# Altium footprint library STM32F031K6T7.PcbLib: 1 footprints
Each footprint in its own frame and in the unit in brackets; x right, y up, seen from the top. Pads: shape width x height; smd on the part's side, far side on the other; paste and mask are expansions set on the pad; w line width, h text height; cw(c..) or ccw(c..) is an arc to the next point about the centre after c.
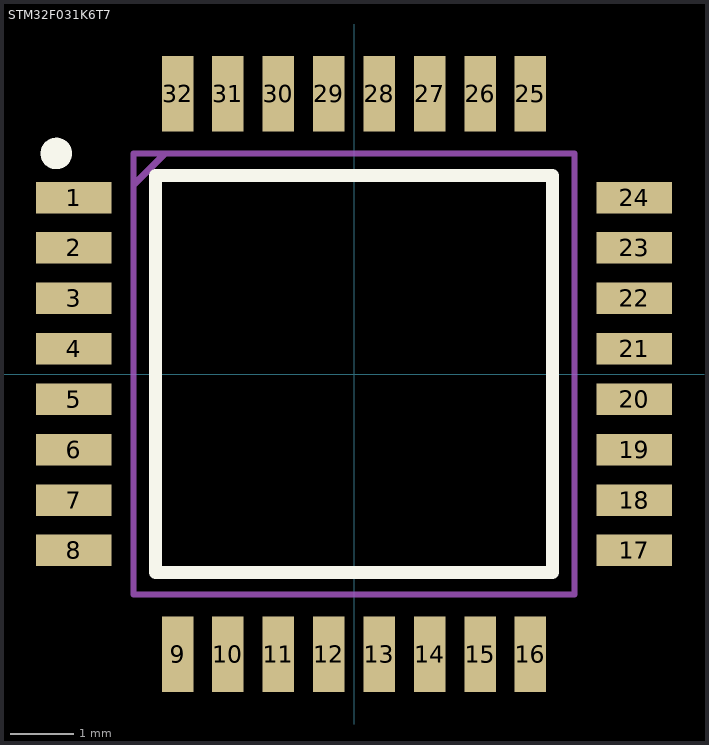
[diagram p0: the footprint, top view; thin cyan lines are the x and y axes]

## STM32F031K6T7 [mm] "LQFP-32"
pads (32):
  rect 1.2x0.5 smd: 1(-4.45,2.8) 2(-4.45,2) 3(-4.45,1.2) 4(-4.45,0.4) 5(-4.45,-0.4) 6(-4.45,-1.2) 7(-4.45,-2) 8(-4.45,-2.8) 17(4.45,-2.8) 18(4.45,-2) 19(4.45,-1.2) 20(4.45,-0.4) 21(4.45,0.4) 22(4.45,1.2) 23(4.45,2) 24(4.45,2.8)
  rect 0.5x1.2 smd: 9(-2.8,-4.45) 10(-2,-4.45) 11(-1.2,-4.45) 12(-0.4,-4.45) 13(0.4,-4.45) 14(1.2,-4.45) 15(2,-4.45) 16(2.8,-4.45) 25(2.8,4.45) 26(2,4.45) 27(1.2,4.45) 28(0.4,4.45) 29(-0.4,4.45) 30(-1.2,4.45) 31(-2,4.45) 32(-2.8,4.45)
Top Overlay:
  circle w0.25: c-4.725,3.5 r0.125
  lines w0.2: -3.15,-3.15 3.15,-3.15 3.15,3.15 -3.15,3.15 -3.15,-3.15
Mechanical 13:
  lines w0.1: -3.5,3 -3,3.5 ; -3.5,-3.5 3.5,-3.5 3.5,3.5 -3.5,3.5 -3.5,-3.5
3D body "LQFP-32.STEP": height 1.5, standoff 0.02, extent -4.5,-4.5 4.5,4.5